# Altium footprint library ToolSub.PcbLib: 23 footprints (part 1 of 2)
Each footprint in its own frame and in the unit in brackets; x right, y up, seen from the top. Pads: shape width x height; smd on the part's side, far side on the other; paste and mask are expansions set on the pad; w line width, h text height; cw(c..) or ccw(c..) is an arc to the next point about the centre after c.
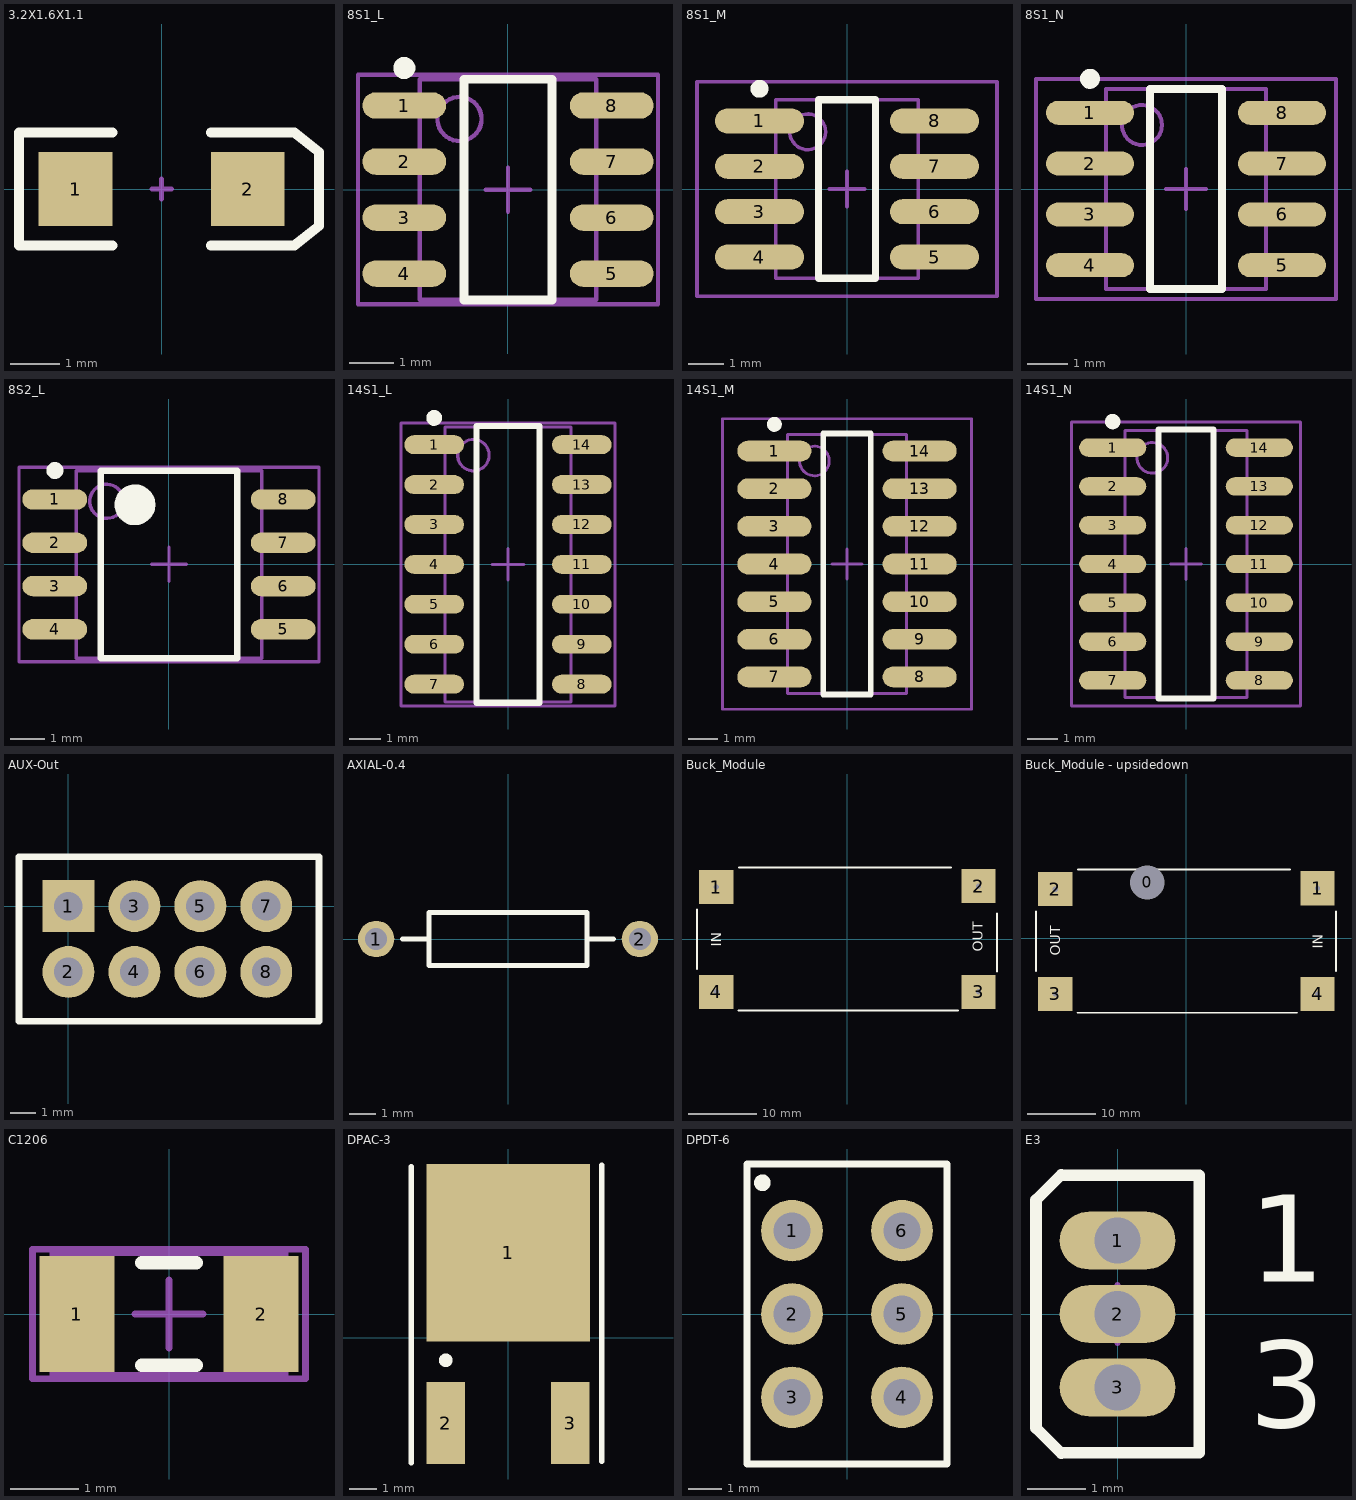
[diagram p0: the footprints below, top view; thin cyan lines are the x and y axes]

## 3.2X1.6X1.1 [mm] "SMT LED; 2 Flat Leads"
height 1.2
pads (2):
  rect 1.5x1.5 smd: 1(-1.75,0) 2(1.75,0)
Top Overlay:
  lines w0.2: -1,-1.15 -2.9,-1.15 -2.9,1.15 -1,1.15 ; 1,-1.15 2.7,-1.15 3.2,-0.75 3.2,0.75 2.7,1.15 1,1.15
Mechanical 1:
  lines w0.1: -0.2,0 0.2,0 ; 0,-0.2 0,0.2

## 8S1_L [mm] "SOIC, 8-Leads, Body 4.9x3.9mm, Pitch 1.27mm, IPC High Density"
height 1.75
pads (8):
  oval 1.9x0.6 smd: 1(-2.35,1.905) 2(-2.35,0.635) 3(-2.35,-0.635) 4(-2.35,-1.905) 5(2.35,-1.905) 6(2.35,-0.635) 7(2.35,0.635) 8(2.35,1.905)
Top Overlay:
  circle w0.25: c-2.35,2.755 r0.125
  lines w0.2: -1,-2.5 -1,2.5 1,2.5 1,-2.5 -1,-2.5
Mechanical 13:
  circle w0.1: c-1.1,1.6 r0.5
  lines w0.1: -2,-2.5 -2,2.5 2,2.5 2,-2.5 -2,-2.5
Mechanical 15:
  lines w0.1: -0.5,0 0.5,0 ; 0,-0.5 0,0.5 ; -3.4,-2.6 -3.4,2.6 3.4,2.6 3.4,-2.6 -3.4,-2.6
3D body: height 1.75, standoff 0, extent -2,-2.5 2,2.5

## 8S1_M [mm] "SOIC, 8-Leads, Body 4.9x3.9mm, Pitch 1.27mm, IPC Low Density"
height 1.75
pads (8):
  oval 2.5x0.7 smd: 1(-2.45,1.905) 2(-2.45,0.635) 3(-2.45,-0.635) 4(-2.45,-1.905) 5(2.45,-1.905) 6(2.45,-0.635) 7(2.45,0.635) 8(2.45,1.905)
Top Overlay:
  circle w0.25: c-2.45,2.805 r0.125
  lines w0.2: -0.8,-2.5 0.8,-2.5 0.8,2.5 -0.8,2.5 -0.8,-2.5
Mechanical 13:
  circle w0.1: c-1.1,1.6 r0.5
  lines w0.1: -2,-2.5 2,-2.5 2,2.5 -2,2.5 -2,-2.5
Mechanical 15:
  lines w0.1: -0.5,0 0.5,0 ; 0,-0.5 0,0.5 ; -4.2,-3 4.2,-3 4.2,3 -4.2,3 -4.2,-3
3D body: height 1.75, standoff 0, extent -2,-2.5 2,2.5

## 8S1_N [mm] "SOIC, 8-Leads, Body 4.9x3.9mm, Pitch 1.27mm, IPC Medium Density"
height 1.75
pads (8):
  oval 2.2x0.6 smd: 1(-2.4,1.905) 2(-2.4,0.635) 3(-2.4,-0.635) 4(-2.4,-1.905) 5(2.4,-1.905) 6(2.4,-0.635) 7(2.4,0.635) 8(2.4,1.905)
Top Overlay:
  circle w0.25: c-2.4,2.755 r0.125
  lines w0.2: -0.9,-2.5 -0.9,2.5 0.9,2.5 0.9,-2.5 -0.9,-2.5
Mechanical 13:
  circle w0.1: c-1.1,1.6 r0.5
  lines w0.1: -2,-2.5 -2,2.5 2,2.5 2,-2.5 -2,-2.5
Mechanical 15:
  lines w0.1: -0.5,0 0.5,0 ; 0,-0.5 0,0.5 ; -3.75,-2.75 -3.75,2.75 3.75,2.75 3.75,-2.75 -3.75,-2.75
3D body: height 1.75, standoff 0, extent -2,-2.5 2,2.5

## 8S2_L [mm] "SOP, 8-Leads, Body 5.3x5.3mm, Pitch 1.27mm, IPC High Density"
height 2.16
pads (8):
  oval 1.9x0.6 smd: 1(-3.35,1.905) 2(-3.35,0.635) 3(-3.35,-0.635) 4(-3.35,-1.905) 5(3.35,-1.905) 6(3.35,-0.635) 7(3.35,0.635) 8(3.35,1.905)
Top Overlay:
  circle w0.25: c-3.35,2.755 r0.125
  circle w0.6: c-1,1.75 r0.3
  lines w0.2: -2,-2.75 -2,2.75 2,2.75 2,-2.75 -2,-2.75
Mechanical 13:
  circle w0.1: c-1.825,1.85 r0.5
  lines w0.1: -2.725,-2.75 -2.725,2.75 2.725,2.75 2.725,-2.75 -2.725,-2.75
Mechanical 15:
  lines w0.1: -0.5,0 0.5,0 ; 0,-0.5 0,0.5 ; -4.4,-2.85 -4.4,2.85 4.4,2.85 4.4,-2.85 -4.4,-2.85
3D body: height 2.16, standoff 0, extent -2.725,-2.75 2.725,2.75

## 14S1_L [mm] "SOIC, 14-Leads, Body 8.7x3.9mm, Pitch 1.27mm, IPC High Density"
height 1.75
pads (14):
  oval 1.9x0.6 smd: 1(-2.35,3.81) 2(-2.35,2.54) 3(-2.35,1.27) 4(-2.35,0) 5(-2.35,-1.27) 6(-2.35,-2.54) 7(-2.35,-3.81) 8(2.35,-3.81) 9(2.35,-2.54) 10(2.35,-1.27) 11(2.35,0) 12(2.35,1.27) 13(2.35,2.54) 14(2.35,3.81)
Top Overlay:
  circle w0.25: c-2.35,4.66 r0.125
  lines w0.2: -1,-4.4 1,-4.4 1,4.4 -1,4.4 -1,-4.4
Mechanical 13:
  circle w0.1: c-1.1,3.475 r0.5
  lines w0.1: -2,-4.375 2,-4.375 2,4.375 -2,4.375 -2,-4.375
Mechanical 15:
  lines w0.1: -0.5,0 0.5,0 ; 0,-0.5 0,0.5 ; -3.4,-4.5 3.4,-4.5 3.4,4.5 -3.4,4.5 -3.4,-4.5
3D body: height 1.75, standoff 0, extent -2,-4.375 2,4.375

## 14S1_M [mm] "SOIC, 14-Leads, Body 8.7x3.9mm, Pitch 1.27mm, IPC Low Density"
height 1.75
pads (14):
  oval 2.5x0.7 smd: 1(-2.45,3.81) 2(-2.45,2.54) 3(-2.45,1.27) 4(-2.45,0) 5(-2.45,-1.27) 6(-2.45,-2.54) 7(-2.45,-3.81) 8(2.45,-3.81) 9(2.45,-2.54) 10(2.45,-1.27) 11(2.45,0) 12(2.45,1.27) 13(2.45,2.54) 14(2.45,3.81)
Top Overlay:
  circle w0.25: c-2.45,4.71 r0.125
  lines w0.2: -0.8,-4.4 0.8,-4.4 0.8,4.4 -0.8,4.4 -0.8,-4.4
Mechanical 13:
  circle w0.1: c-1.1,3.475 r0.5
  lines w0.1: -2,-4.375 2,-4.375 2,4.375 -2,4.375 -2,-4.375
Mechanical 15:
  lines w0.1: -0.5,0 0.5,0 ; 0,-0.5 0,0.5 ; -4.2,-4.9 4.2,-4.9 4.2,4.9 -4.2,4.9 -4.2,-4.9
3D body: height 1.75, standoff 0, extent -2,-4.375 2,4.375

## 14S1_N [mm] "SOIC, 14-Leads, Body 8.7x3.9mm, Pitch 1.27mm, IPC Medium Density"
height 1.75
pads (14):
  oval 2.2x0.6 smd: 1(-2.4,3.81) 2(-2.4,2.54) 3(-2.4,1.27) 4(-2.4,0) 5(-2.4,-1.27) 6(-2.4,-2.54) 7(-2.4,-3.81) 8(2.4,-3.81) 9(2.4,-2.54) 10(2.4,-1.27) 11(2.4,0) 12(2.4,1.27) 13(2.4,2.54) 14(2.4,3.81)
Top Overlay:
  circle w0.25: c-2.4,4.66 r0.125
  lines w0.2: -0.9,-4.4 -0.9,4.4 0.9,4.4 0.9,-4.4 -0.9,-4.4
Mechanical 13:
  circle w0.1: c-1.1,3.475 r0.5
  lines w0.1: -2,-4.375 -2,4.375 2,4.375 2,-4.375 -2,-4.375
Mechanical 15:
  lines w0.1: -0.5,0 0.5,0 ; 0,-0.5 0,0.5 ; -3.75,-4.65 -3.75,4.65 3.75,4.65 3.75,-4.65 -3.75,-4.65
3D body: height 1.75, standoff 0, extent -2,-4.375 2,4.375

## AUX-Out [mm] "2.54mm"
pads (8):
  rect 2x2 hole 1.1: 1(0,0)
  round 2 hole 1.1: 2(0,-2.54) 3(2.54,0) 4(2.54,-2.54) 5(5.08,0) 6(5.08,-2.54) 7(7.62,0) 8(7.62,-2.54)
Top Overlay:
  lines w0.254: -1.905,-4.445 -1.905,1.905 9.652,1.905 9.652,-4.445 -1.905,-4.445

## AXIAL-0.4 [mm] "Axial Device, Thru-Hole; 2 Leads; 0.4 in Pin Spacing"
height 2.032
pads (2):
  round 1.4 hole 0.85: 1(-5.08,0) 2(5.08,0)
Top Overlay:
  lines w0.2: -4.064,0 -3.048,0 ; 3.048,0 4.064,0 ; -3.048,-1.016 -3.048,1.016 3.048,1.016 3.048,-1.016 -3.048,-1.016

## Buck_Module [mil]
height 472.44
pads (4):
  rect 196.85x196.85 hole 30: 1(-755,300) 2(760,305) 3(760,-305) 4(-755,-305)
Top Overlay:
  lines w10: -866.14,-173.86 -866.14,172.24 ; -626.61,-413.39 641.61,-413.39 ; -625,413.39 601.61,413.39 ; 866.14,-188.86 866.14,148.86
  text "IN" at -725,-45 h60
  text "OUT" at 785,-75 h60
3D body: height 590.55, standoff 118.11, extent -855,-400 855,400

## Buck_Module - upsidedown [mm]
height 12.3
pads (5):
  round 3 hole 5 unplated: 0(-5.74,8.184)
  rect 5x5 hole 0.762: 1(19.241,7.311) 2(-19.241,7.184) 3(-19.241,-8.183) 4(19.241,-8.183)
Top Overlay:
  lines w0.254: -22.063,-4.852 -22.063,3.939 ; -15.98,-10.936 16.234,-10.936 ; -15.938,10.064 15.218,10.064 ; 21.936,-4.852 21.936,3.939
  text "IN" at 20.002,-1.579 h1.52
  text "OUT" at -18.479,-2.595 h1.52
3D body: height 12, standoff 4, extent -14.16,-10.977 11.747,10.105
3D body: height 12, standoff 0, extent -21.907,-10.85 -3.238,10.105
3D body: height 12, standoff 0, extent 11.747,-10.85 21.907,9.978

## C1206 [mm] "Chip Capacitor, Body 3.2x1.6mm, IPC High Density"
height 1.3
pads (2):
  rect 1.1x1.7 smd: 1(-1.35,0) 2(1.35,0)
Top Overlay:
  lines w0.2: -0.4,-0.75 0.4,-0.75 ; -0.4,0.75 0.4,0.75
Mechanical 13:
  lines w0.1: -1.7,-0.9 -1.7,0.9 1.7,0.9 1.7,-0.9 -1.7,-0.9
Mechanical 15:
  lines w0.1: -0.5,0 0.5,0 ; 0,-0.5 0,0.5 ; -2,-0.95 -2,0.95 2,0.95 2,-0.95 -2,-0.95
3D body: height 1.3, standoff 0, extent -1.7,-0.9 1.7,0.9

## DPAC-3 [mm] "D-PAC"
height 2.38
pads (3):
  rect 6x6.5 smd: 1(0.015,3.125)
  rect 1.4x3 smd: 2(-2.285,-3.125) 3(2.285,-3.125)
Top Overlay:
  circle w0.25: c-2.284,-0.822 r0.125
  lines w0.2: -3.555,-4.577 -3.555,6.273 ; 3.43,-4.522 3.43,6.328

## DPDT-6 [mm] "Switch; 6 Leads"
pads (6):
  round 1.85 hole 1.1: 1(-1.65,2.5) 2(-1.65,0) 3(-1.65,-2.5) 4(1.65,-2.5) 5(1.65,0) 6(1.65,2.5)
Top Overlay:
  circle w0.25: c-2.538,3.937 r0.125
  lines w0.2: -3,-4.5 3,-4.5 3,4.5 -3,4.5 -3,-4.5

## E3 [mm] "TO, Flat Index; 3 In-Line, Axial Leads; Body Dia. 4.6mm; Lead Dia. 0.5 mm (max)"
height 4.01
pads (3):
  oval 2x1 hole 0.8: 1(0,1.27) 2(0,0) 3(0,-1.27)
Top Overlay:
  lines w0.2: -0.97,-2.41 -1.41,-1.97 -1.41,1.97 -0.97,2.41 ; -0.97,-2.4 1.41,-2.4 1.41,2.4 -0.97,2.4
  text "3" at 2.275,-1.963 h1.5
  text "1" at 2.275,0.555 h1.5
Mechanical 15:
  lines w0.1: -0.5,0 0.5,0 ; 0,-0.5 0,0.5